# Altium schematic symbol library FA28NP01H330JNU06.SchLib: 1 symbol
Pins are listed as number, name and electrical type; pins without a type are passive.

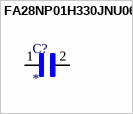
[diagram p0: symbol FA28NP01H330JNU06]

## FA28NP01H330JNU06
designator C?
33 pF Â±5% 50V Ceramic Capacitor C0G, NP0 Radial; MF: TDK; MP: FA28NP01H330JNU06; SnapEDA_Link: https://www.snapeda.com/parts/FA28NP01H330JNU06/TDK/view-part/?ref=snap; Package: RADIAL-2 TDK; Value: *; Check_prices: https://www.snapeda.com/parts/FA28NP01H330JNU06/TDK/view-part/?ref=eda
footprint CAPRB500W50L400T250H550
pins: 1, 2